# Altium integrated library L7805CV-DG.IntLib: 1 symbol
Pins are listed as number, name and electrical type; pins without a type are passive.

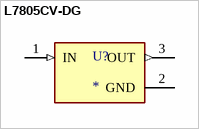
[diagram p0: symbol L7805CV-DG]

## L7805CV-DG
designator U?
Linear Voltage Regulator IC Positive Fixed 1 Output 1.5A TO-220; MF: STMicroelectronics; MP: L7805CV-DG; Value: *; Availability: In Stock; Price: None; SnapEDA_Link: https://www.snapeda.com/parts/L7805CV-DG/STMicroelectronics/view-part/?ref=snap; Check_prices: https://www.snapeda.com/parts/L7805CV-DG/STMicroelectronics/view-part/?ref=eda; Purchase-URL: https://pricing.snapeda.com/search/part/L7805CV-DG/?ref=eda; Package: TO-220 STMicroelectronics
footprint TO255P1040X460X2890-3
pins: 1 IN (in), 2 GND (power), 3 OUT (out)